# Altium schematic symbol library Schlib.SchLib: 97 symbols
Pins are listed as number, name and electrical type; pins without a type are passive.

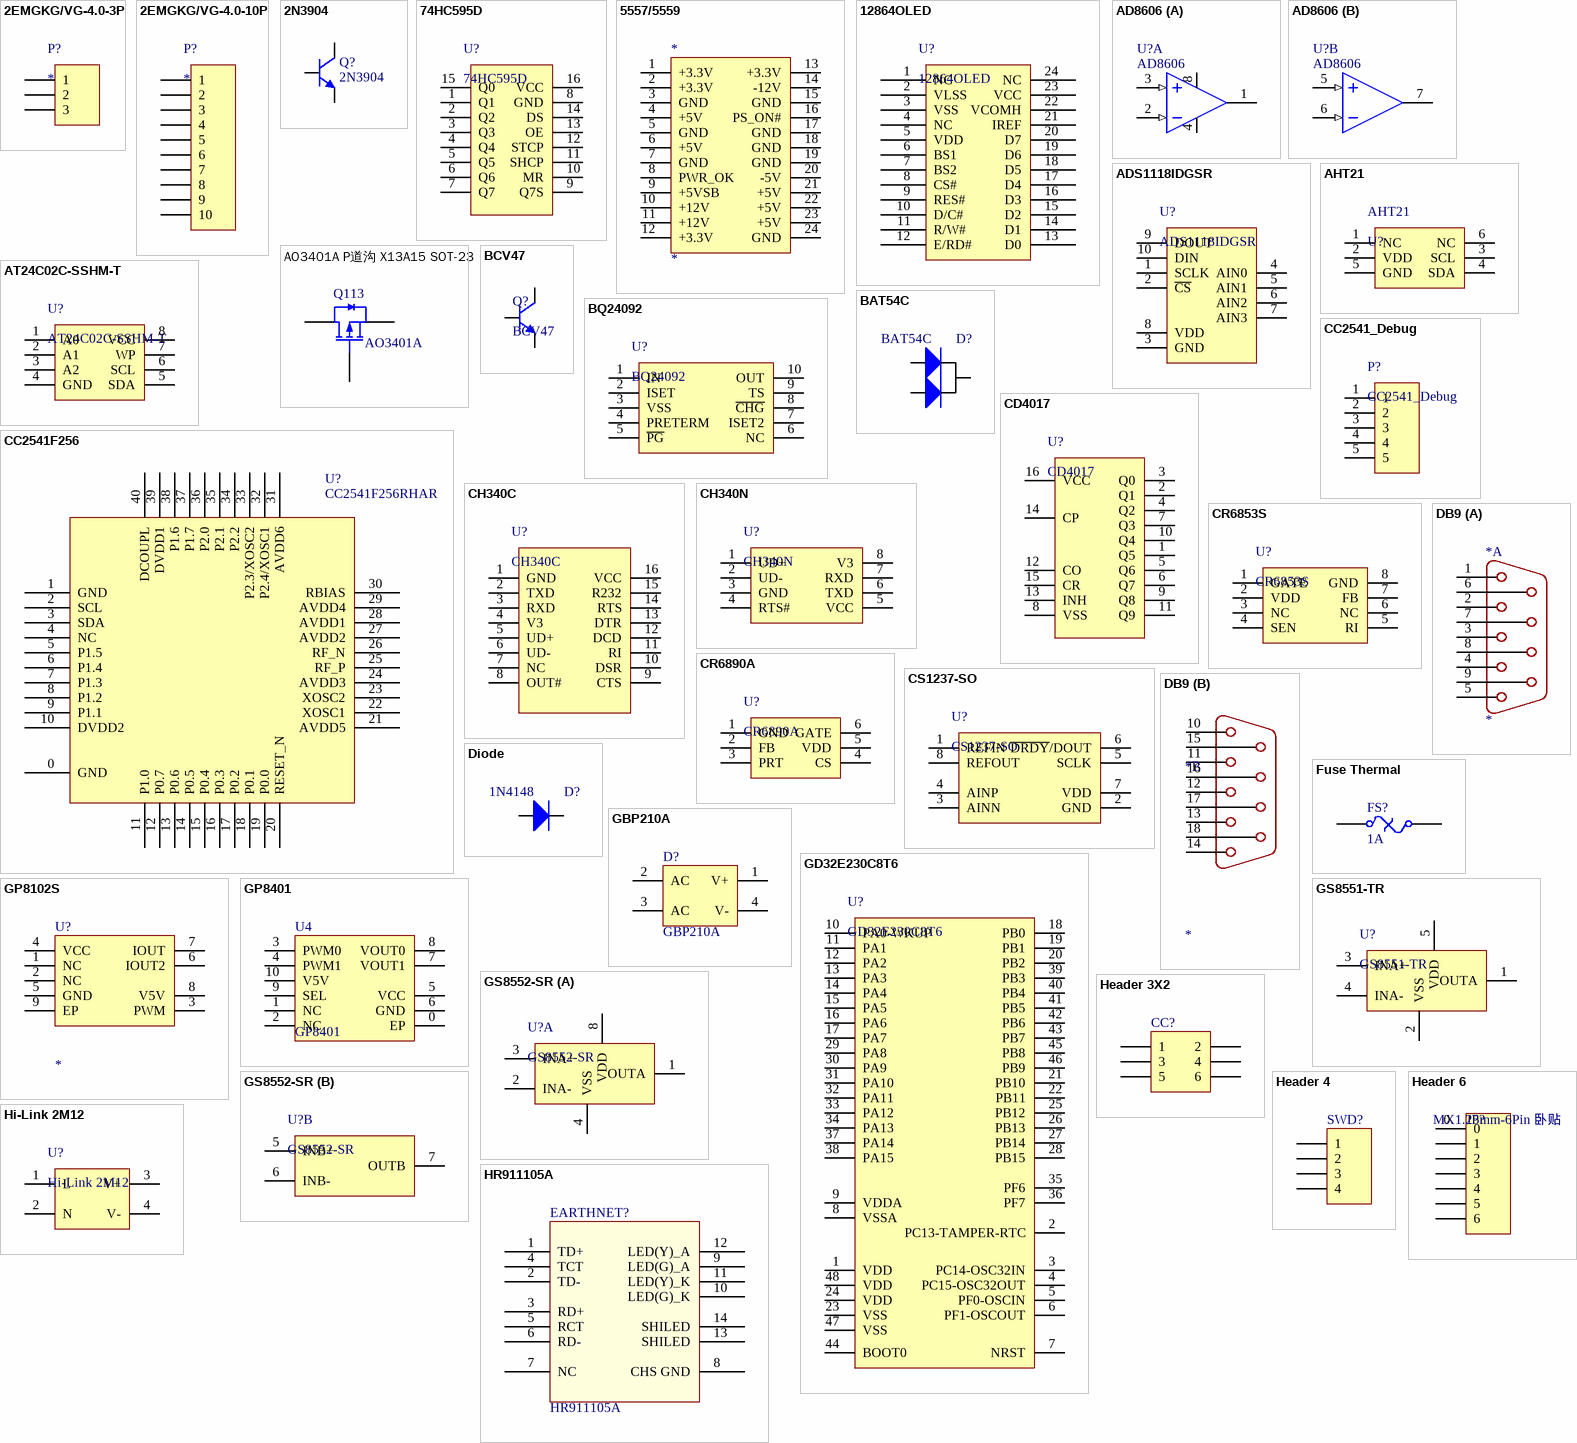
[diagram p0: symbols 2EMGKG/VG-4.0-3P to HR911105A]

## 2EMGKG/VG-4.0-3P
designator P?
西门子
footprint 2EMGKG/VG-4.0-3P
pins: 1, 2, 3

## 2EMGKG/VG-4.0-10P
designator P?
西门子
footprint 2EMGKG/VG-4.0-7P
pins: 1, 2, 3, 4, 5, 6, 7, 8, 9, 10

## 2N3904
designator Q?
NPN General Purpose Amplifier; Published: 8-Jun-2000; LatestRevisionDate: 15-Jan-2003; LatestRevisionNote: PCB Footprint 'BCY-W3/D4.7' replaced; DatasheetDocument: 1997; PackageDocument: Sep-1998; PackageReference: TO-92A; Publisher: Altium Limited; Code_JEDEC: TO-92A; ComponentLink1Description: Manufacturer Link; ComponentLink1URL: http://www.fairchildsemi.com/; ComponentLink2Description: Datasheet; ComponentLink2URL: http://www.fairchildsemi.com/ds/2N%2F2N3904.pdf
footprint TO-92A (TO, Flat Index; 3 In-Line, Axial Leads; Body Dia. 4.5mm; Leads 0.51 x 0.48 mm (max))
simulation model 2N3904 (NPN)
signal-integrity model 2N3904
footprint SOT-23
pins: 1 E, 2 B, 3 C

## 74HC595D
designator U?
74HC 移位寄存器 8位
footprint SOP-16
pins: 1 Q1, 2 Q2, 3 Q3, 4 Q4, 5 Q5, 6 Q6, 7 Q7, 8 GND, 9 Q7S, 10 MR, 11 SHCP, 12 STCP, 13 OE, 14 DS, 15 Q0, 16 VCC

## 5557/5559
designator *
footprint PC_4.2mm_2x12p
pins: 1 +3.3V, 2 +3.3V, 3 GND, 4 +5V, 5 GND, 6 +5V, 7 GND, 8 PWR_OK, 9 +5VSB, 10 +12V, 11 +12V, 12 +3.3V, 13 +3.3V, 14 -12V, 15 GND, 16 PS_ON#, 17 GND, 18 GND, 19 GND, 20 -5V, 21 +5V, 22 +5V, 23 +5V, 24 GND
2 alternate drawings of the same symbol

## 12864OLED
designator U?
中景园 OLED
pins: 1 NC, 2 VLSS, 3 VSS, 4 NC, 5 VDD, 6 BS1, 7 BS2, 8 CS#, 9 RES#, 10 D/C#, 11 R/W#, 12 E/RD#, 13 D0, 14 D1, 15 D2, 16 D3, 17 D4, 18 D5, 19 D6, 20 D7, 21 IREF, 22 VCOMH, 23 VCC, 24 NC

## AD8606
designator U?
CMOS Dual Operational Amplifier, Package SOIC8; Published: 8-Jun-2000; LatestRevisionDate: 04-Mar-2005; LatestRevisionNote: Stylized 3D Model Added.; DatasheetVersion: REV. C; PackageVersion: 1996; PackageReference: Q-16; Publisher: Altium Limited; PackageDescription: DIP; 16 Leads; Row Spacing 7.62 mm; Pitch 2.54 mm; ComponentLink1Description: Manufacturer Link; ComponentLink1URL: http://www.analog.com/en/prod/0%2C2877%2CAD96685%2C00.html; ComponentLink2Description: Datasheet; ComponentLink2URL: http://www.analog.com/UploadedFiles/Data_Sheets/528053103AD96685_7_d.pdf
footprint SOIC8
part A pins: 1 OUTA (oe), 2 INA- (in), 3 INA+ (in), 4 OUT3, 8 VCC (oe)
part B pins: 5 INB+ (in), 6 INB- (in), 7 OUTB (oe)

## ADS1118IDGSR
designator U?
位数：16  采样率：860  单端4 SPI
pins: 1 SCLK, 2 ~{CS}, 3 GND, 4 AIN0, 5 AIN1, 6 AIN2, 7 AIN3, 8 VDD, 9 DOUT, 10 DIN

## AHT21
designator AHT21, comment U?
footprint AHT21
pins: 1 NC, 2 VDD, 3 SCL, 4 SDA, 5 GND, 6 NC

## AO3401A P道沟 X13A15 SOT-23
designator Q113, comment AO3401A
MOS(场效应管); ComponentLink1Description: 供应商链接; ComponentLink1URL: http://www.szlcsc.com/product/details_15801.html; Package: SOT-23; Supplier: LC; SuppliersPartNumber: C15127
footprint SOT-23-3L (http://www.aosmd.com/res/packaging_information/SOT-23-3L.pdf)
pins: 1 G, 2 S, 3 D

## AT24C02C-SSHM-T
designator U?
footprint SOIC8
pins: 1 A0, 2 A1, 3 A2, 4 GND, 5 SDA, 6 SCL, 7 WP, 8 VCC

## BAT54C
designator D?
BAT54C  一对共阴极; Published: 8-Jun-2000; LatestRevisionDate: 17-Jul-2002; LatestRevisionNote: Re-released for DXP Platform.; PackageDocument: Sep-1996; PackageReference: SMC; Publisher: Altium Limited; Code_JEDEC: DO-214-AB
footprint SOT-23 2N3904 (SOT-23; 3 Leads; Body 3.0 x 2.6 mm, inc. leads (LxW max))
pins: 1, 2, 3

## BCV47
designator Q?
达林顿管 Vcbo 80V Vceo 60V Ic 500mA
pins: 1 E, 2 B, 3 C

## BQ24092
designator U?
德仪 1A 锂离子电池充电 10kΩ NTC
pins: 1 IN, 2 ISET, 3 VSS, 4 PRETERM, 5 ~{PG}, 6 NC, 7 ISET2, 8 ~{CHG}, 9 TS, 10 OUT

## CC2541_Debug
designator P?
2.00mm*5
footprint CC2541_DEBUG
pins: 1, 2, 3, 4, 5

## CC2541F256
designator U?, comment CC2541F256RHAR
CC2541F128/256  Package Type: VQFN, Package Drawing: RHA,
footprint QFN40-MD (QFN, 40-Leads, Body 6.2x6.2mm (max), Pitch 0.50mm, IPC Medium Density)
pins: 0 GND, 1 GND, 2 SCL, 3 SDA, 4 NC, 5 P1.5, 6 P1.4, 7 P1.3, 8 P1.2, 9 P1.1, 10 DVDD2, 11 P1.0, 12 P0.7, 13 P0.6, 14 P0.5, 15 P0.4, 16 P0.3, 17 P0.2, 18 P0.1, 19 P0.0, 20 RESET_N, 21 AVDD5, 22 XOSC1, 23 XOSC2, 24 AVDD3, 25 RF_P, 26 RF_N, 27 AVDD2, 28 AVDD1, 29 AVDD4, 30 RBIAS, 31 AVDD6, 32 P2.4/XOSC1, 33 P2.3/XOSC2, 34 P2.2, 35 P2.1, 36 P2.0, 37 P1.7, 38 P1.6, 39 DVDD1, 40 DCOUPL

## CD4017
designator U?
footprint SOP-16
pins: 1 Q5, 2 Q1, 3 Q0, 4 Q2, 5 Q6, 6 Q7, 7 Q3, 8 VSS, 9 Q8, 10 Q4, 11 Q9, 12 CO, 13 INH, 14 CP, 15 CR, 16 VCC

## CH340C
designator U?
footprint SOP-16
pins: 1 GND, 2 TXD, 3 RXD, 4 V3, 5 UD+, 6 UD-, 7 NC, 8 OUT#, 9 CTS, 10 DSR, 11 RI, 12 DCD, 13 DTR, 14 RTS, 15 R232, 16 VCC

## CH340N
designator U?
USB转串口芯片
footprint SOP-8_150MIL
pins: 1 UD+, 2 UD-, 3 GND, 4 RTS#, 5 VCC, 6 TXD, 7 RXD, 8 V3

## CR6853S
designator U?
footprint SOP8
pins: 1 GATE, 2 VDD, 3 NC, 4 SEN, 5 RI, 6 NC, 7 FB, 8 GND

## CR6890A
designator U?
footprint SOT-23 - 6
pins: 1 GND, 2 FB, 3 PRT, 4 CS, 5 VDD, 6 GATE

## CS1237-SO
designator U?
芯海科技 24位无失码 最高有效精度20位 2线通讯接口
pins: 1 REFIN, 2 GND, 3 AINN, 4 AINP, 5 SCLK, 6 ~{DRDY}/DOUT, 7 VDD, 8 REFOUT

## DB9
designator *
footprint D-Sub 9P female
footprint D-Sub 9P male
footprint D-Sub 9P*2 female
part A pins: 1, 2, 3, 4, 5, 6, 7, 8, 9
part B pins: 10, 11, 12, 13, 14, 15, 16, 17, 18
2 alternate drawings of the same symbol

## Diode
designator D?, comment 1N4148
Published: 8-Jun-2000; LatestRevisionDate: 17-Jul-2002; LatestRevisionNote: Re-released for DXP Platform.; PackageDocument: Sep-1996; PackageReference: SMC; Publisher: Altium Limited; Code_JEDEC: DO-214-AB
footprint SMC (DO-214-AB/SMC; 2 C-Bend Leads; Body 7.9 x 5.9 mm, inc. leads (LxW))
simulation model DIODE (Diode)
signal-integrity model Diode
footprint 0805D
pins: 1, 2 3

## Fuse Thermal
designator FS?, comment 1A
FS, 30V_500mA; Published: 24-Mar-1999; LatestRevisionDate: 17-Jul-2002; LatestRevisionNote: Re-released for DXP Platform.; PackageReference: PIN-W2/E2.8; Publisher: 1A
footprint PIN-W2/E2.8 (Thermal Fuse; 2 Leads)
footprint SMD1206
pins: 1, 2

## GBP210A
designator D?
Published: 24-Mar-1999; LatestRevisionDate: 17-Jul-2002; LatestRevisionNote: Re-released for DXP Platform.; PackageReference: D-46_6A; Publisher: Altium Limited
pins: 1 V+, 2 AC, 3 AC, 4 V-

## GD32E230C8T6
designator U?
ARM Cortex-M23
footprint LQFP48
pins: 1 VDD, 2 PC13-TAMPER-RTC, 3 PC14-OSC32IN, 4 PC15-OSC32OUT, 5 PF0-OSCIN, 6 PF1-OSCOUT, 7 NRST, 8 VSSA, 9 VDDA, 10 PA0-WKUP, 11 PA1, 12 PA2, 13 PA3, 14 PA4, 15 PA5, 16 PA6, 17 PA7, 18 PB0, 19 PB1, 20 PB2, 21 PB10, 22 PB11, 23 VSS, 24 VDD, 25 PB12, 26 PB13, 27 PB14, 28 PB15, 29 PA8, 30 PA9, 31 PA10, 32 PA11, 33 PA12, 34 PA13, 35 PF6, 36 PF7, 37 PA14, 38 PA15, 39 PB3, 40 PB4, 41 PB5, 42 PB6, 43 PB7, 44 BOOT0, 45 PB8, 46 PB9, 47 VSS, 48 VDD

## GP8102S
designator U?
0%-100% PWM 转0-20mA
footprint SOP-8-EP
pins: 1 NC, 2 NC, 3 PWM, 4 VCC, 5 GND, 6 IOUT2, 7 IOUT, 8 V5V, 9 EP
2 alternate drawings of the same symbol

## GP8401
designator U4
双通道 0%-100% PWM 转 0-5V/0-10V
footprint ESSOP-10(-EP)
pins: 0 EP, 1 NC, 2 NC, 3 PWM0, 4 PWM1, 5 VCC, 6 GND, 7 VOUT1, 8 VOUT0, 9 SEL, 10 V5V
2 alternate drawings of the same symbol

## GS8551-TR
designator U?
1.5MHZ, 轨到轨，5uVm
footprint SOT-23 - 5
pins: 1 OUTA, 2 VSS, 3 INA+, 4 INA-, 5 VDD

## GS8552-SR
designator U?
1.5MHZ, 轨到轨，5uVm
footprint SOP-8_150MIL
part A pins: 1 OUTA, 2 INA-, 3 INA+, 4 VSS, 8 VDD
part B pins: 5 INB+, 6 INB-, 7 OUTB

## Header 3X2
designator CC?  (value not drawn)
Header, 3-Pin, Dual row; LatestRevisionDate: 17-Jul-2002; LatestRevisionNote: Re-released for DXP Platform.; Publisher: Altium Limited
footprint HDR2X3 (Connector; Header; 3x2 Position)
signal-integrity model Connector
footprint PIN_D1.27_8A
footprint PIN_D1.27_6A
pins: 1, 2, 3, 4, 5, 6

## Header 4
designator SWD?  (value not drawn)
Header, 4-Pin; LatestRevisionDate: 17-Jul-2002; LatestRevisionNote: Re-released for DXP Platform.; Publisher: Altium Limited
footprint Sullins_1.27-4mm (Receptacle, 1.27mm, 6x1, SMT)
signal-integrity model Connector
pins: 1, 2, 3, 4

## Header 6
designator JP?, comment MX1.25mm-6Pin 卧贴
LatestRevisionDate: 17-Jul-2002; LatestRevisionNote: Re-released for DXP Platform.; Publisher: Altium Limited
footprint ROHS_1.25-6MM (Receptacle, 1.27mm, 6x1, SMT)
signal-integrity model Connector
pins: 0, 1, 2, 3, 4, 5, 6

## Hi-Link 2M12
designator U?
footprint Hi-Link 2M12
pins: 1 L, 2 N, 3 V+, 4 V-

## HR911105A
designator EARTHNET?
footprint HR911105A
pins: 1 TD+, 2 TD-, 3 RD+, 4 TCT, 5 RCT, 6 RD-, 7 NC, 8 CHS GND, 9 LED(G)_A, 10 LED(G)_K, 11 LED(Y)_K, 12 LED(Y)_A, 13 SHILED, 14 SHILED

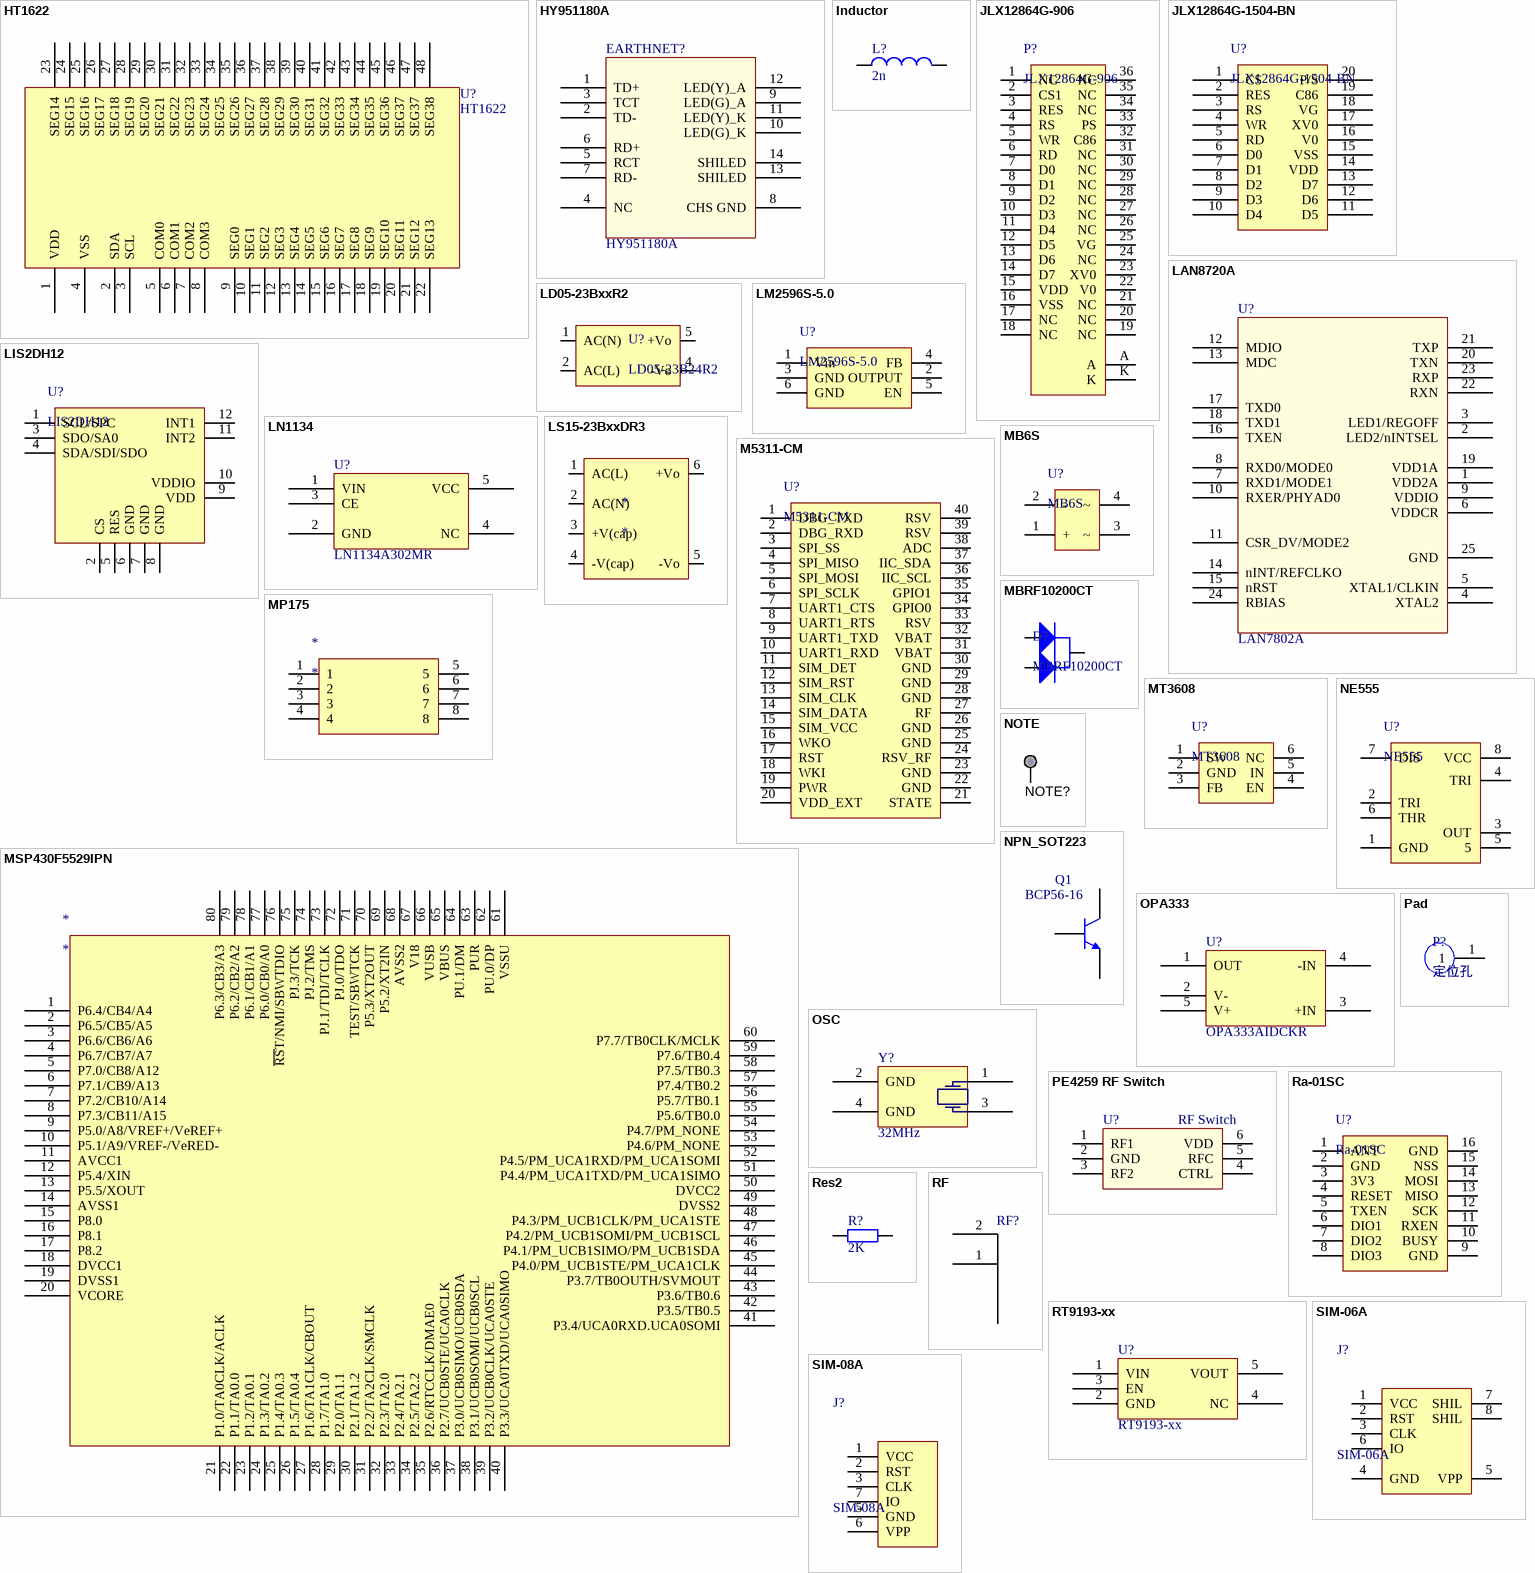
[diagram p1: symbols HT1622 to SIM-08A]

## HT1622
designator U?
RAM Mapping LCD Controller  4x38
footprint LQFP48
pins: 1 VDD, 2 SDA, 3 SCL, 4 VSS, 5 COM0, 6 COM1, 7 COM2, 8 COM3, 9 SEG0, 10 SEG1, 11 SEG2, 12 SEG3, 13 SEG4, 14 SEG5, 15 SEG6, 16 SEG7, 17 SEG8, 18 SEG9, 19 SEG10, 20 SEG11, 21 SEG12, 22 SEG13, 23 SEG14, 24 SEG15, 25 SEG16, 26 SEG17, 27 SEG18, 28 SEG19, 29 SEG20, 30 SEG21, 31 SEG22, 32 SEG23, 33 SEG24, 34 SEG25, 35 SEG26, 36 SEG27, 37 SEG28, 38 SEG29, 39 SEG30, 40 SEG31, 41 SEG32, 42 SEG33, 43 SEG34, 44 SEG35, 45 SEG36, 46 SEG37, 47 SEG37, 48 SEG38

## HY951180A
designator EARTHNET?
footprint HY951180A
pins: 1 TD+, 2 TD-, 3 TCT, 4 NC, 5 RCT, 6 RD+, 7 RD-, 8 CHS GND, 9 LED(G)_A, 10 LED(G)_K, 11 LED(Y)_K, 12 LED(Y)_A, 13 SHILED, 14 SHILED

## Inductor
designator L?, comment 2n
+/- 0.3nH; Code_IEC: 1005; Published: 8-Jun-2000; LatestRevisionDate: 17-Jul-2002; LatestRevisionNote: Re-released for DXP Platform.; PackageReference: 0402-A; Publisher: Altium Limited; Code_JEITA: 0402; Value: 2n
footprint 0402-A (Chip Inductor; Body 1 x 0.5 mm (LxW typ))
footprint L0603 (Chip Inductor; Body 1.6 x 0.8 mm (LxW typ))
footprint 2012_Chip (2012 Chip; Chip Inductor; Body 2.0 x 1.2 mm (LxW typ))
footprint 2029 (Chip Inductor; Body 2 x 1.2 mm (LxW typ))
footprint 3261 (3216 Chip; Chip Inductor; Body 3.2 x 1.6 mm (LxW typ))
footprint 4564_Chip (4564 Chip; Chip Inductor; Body 4.5 x 6.4 mm (LxW typ))
simulation model INDUCTOR (Inductor)
signal-integrity model Inductor
footprint 0603R
footprint 0402R
footprint 0402mR
pins: 1, 2

## JLX12864G-906
designator P?
晶联讯电子
pins: 1 NC, 2 CS1, 3 RES, 4 RS, 5 WR, 6 RD, 7 D0, 8 D1, 9 D2, 10 D3, 11 D4, 12 D5, 13 D6, 14 D7, 15 VDD, 16 VSS, 17 NC, 18 NC, 19 NC, 20 NC, 21 NC, 22 V0, 23 XV0, 24 NC, 25 VG, 26 NC, 27 NC, 28 NC, 29 NC, 30 NC, 31 NC, 32 C86, 33 PS, 34 NC, 35 NC, 36 NC, A, K

## JLX12864G-1504-BN
designator U?
晶联讯电子
pins: 1 CS, 2 RES, 3 RS, 4 WR, 5 RD, 6 D0, 7 D1, 8 D2, 9 D3, 10 D4, 11 D5, 12 D6, 13 D7, 14 VDD, 15 VSS, 16 V0, 17 XV0, 18 VG, 19 C86, 20 P/S

## LAN8720A
designator U?, comment LAN7802A
Small Footprint RMII 10/100 Ethernet
footprint QFN24
pins: 1 VDD2A, 2 LED2/nINTSEL, 3 LED1/REGOFF, 4 XTAL2, 5 XTAL1/CLKIN, 6 VDDCR, 7 RXD1/MODE1, 8 RXD0/MODE0, 9 VDDIO, 10 RXER/PHYAD0, 11 CSR_DV/MODE2, 12 MDIO, 13 MDC, 14 nINT/REFCLKO, 15 nRST, 16 TXEN, 17 TXD0, 18 TXD1, 19 VDD1A, 20 TXN, 21 TXP, 22 RXN, 23 RXP, 24 RBIAS, 25 GND

## LD05-23BxxR2
designator U?, comment LD05-23B24R2
footprint LD05-23BxxR2
pins: 1 AC(N), 2 AC(L), 4 -Vo, 5 +Vo

## LIS2DH12
designator U?
加速度传感器
pins: 1 SCL/SPC, 2 CS, 3 SDO/SA0, 4 SDA/SDI/SDO, 5 RES, 6 GND, 7 GND, 8 GND, 9 VDD, 10 VDDIO, 11 INT2, 12 INT1

## LM2596S-5.0
designator U?
footprint TO-263-5
pins: 1 Vin, 2 OUTPUT, 3 GND, 4 FB, 5 EN, 6 GND

## LN1134
designator U?, comment LN1134A302MR
SC-88, SOT363,Dual inverting schmitt-trigger
footprint SOT-23 - 5
pins: 1 VIN, 2 GND, 3 CE, 4 NC, 5 VCC

## LS15-23BxxDR3
designator *
footprint LS15-23BXXR3
pins: 1 AC(L), 2 AC(N), 3 +V(cap), 4 -V(cap), 5 -Vo, 6 +Vo

## M5311-CM
designator U?
中移NB-IoT
pins: 1 DBG_TXD, 2 DBG_RXD, 3 SPI_SS, 4 SPI_MISO, 5 SPI_MOSI, 6 SPI_SCLK, 7 UART1_CTS, 8 UART1_RTS, 9 UART1_TXD, 10 UART1_RXD, 11 SIM_DET, 12 SIM_RST, 13 SIM_CLK, 14 SIM_DATA, 15 SIM_VCC, 16 WKO, 17 RST, 18 WKI, 19 PWR, 20 VDD_EXT, 21 STATE, 22 GND, 23 GND, 24 RSV_RF, 25 GND, 26 GND, 27 RF, 28 GND, 29 GND, 30 GND, 31 VBAT, 32 VBAT, 33 RSV, 34 GPIO0, 35 GPIO1, 36 IIC_SCL, 37 IIC_SDA, 38 ADC, 39 RSV, 40 RSV

## MB6S
designator U?
footprint MB6S (Footprint not found)
pins: 1 +, 2 -, 3 ~, 4 ~

## MBRF10200CT
designator D?
pins: 1, 2, 3

## MP175
designator *
pins: 1, 2, 3, 4, 5, 6, 7, 8

## MSP430F5529IPN
designator *
pins: 1 P6.4/CB4/A4, 2 P6.5/CB5/A5, 3 P6.6/CB6/A6, 4 P6.7/CB7/A7, 5 P7.0/CB8/A12, 6 P7.1/CB9/A13, 7 P7.2/CB10/A14, 8 P7.3/CB11/A15, 9 P5.0/A8/VREF+/VeREF+, 10 P5.1/A9/VREF-/VeRED-, 11 AVCC1, 12 P5.4/XIN, 13 P5.5/XOUT, 14 AVSS1, 15 P8.0, 16 P8.1, 17 P8.2, 18 DVCC1, 19 DVSS1, 20 VCORE, 21 P1.0/TA0CLK/ACLK, 22 P1.1/TA0.0, 23 P1.2/TA0.1, 24 P1.3/TA0.2, 25 P1.4/TA0.3, 26 P1.5/TA0.4, 27 P1.6/TA1CLK/CBOUT, 28 P1.7/TA1.0, 29 P2.0/TA1.1, 30 P2.1/TA1.2, 31 P2.2/TA2CLK/SMCLK, 32 P2.3/TA2.0, 33 P2.4/TA2.1, 34 P2.5/TA2.2, 35 P2.6/RTCCLK/DMAE0, 36 P2.7/UCB0STE/UCA0CLK, 37 P3.0/UCB0SIMO/UCB0SDA, 38 P3.1/UCB0SOMI/UCB0SCL, 39 P3.2/UCB0CLK/UCA0STE, 40 P3.3/UCA0TXD/UCA0SIMO, 41 P3.4/UCA0RXD.UCA0SOMI, 42 P3.5/TB0.5, 43 P3.6/TB0.6, 44 P3.7/TB0OUTH/SVMOUT, 45 P4.0/PM_UCB1STE/PM_UCA1CLK, 46 P4.1/PM_UCB1SIMO/PM_UCB1SDA, 47 P4.2/PM_UCB1SOMI/PM_UCB1SCL, 48 P4.3/PM_UCB1CLK/PM_UCA1STE, 49 DVSS2, 50 DVCC2, 51 P4.4/PM_UCA1TXD/PM_UCA1SIMO, 52 P4.5/PM_UCA1RXD/PM_UCA1SOMI, 53 P4.6/PM_NONE, 54 P4.7/PM_NONE, 55 P5.6/TB0.0, 56 P5.7/TB0.1, 57 P7.4/TB0.2, 58 P7.5/TB0.3, 59 P7.6/TB0.4, 60 P7.7/TB0CLK/MCLK, 61 VSSU, 62 PU.0/DP, 63 PUR, 64 PU.1/DM, 65 VBUS, 66 VUSB, 67 V18, 68 AVSS2, 69 P5.2/XT2IN, 70 P5.3/XT2OUT, 71 TEST/SBWTCK, 72 PJ.0/TDO, 73 PJ.1/TDI/TCLK, 74 PJ.2/TMS, 75 PJ.3/TCK, 76 ~{RS}T/NMI/SBWTDIO, 77 P6.0/CB0/A0, 78 P6.1/CB1/A1, 79 P6.2/CB2/A2, 80 P6.3/CB3/A3

## MT3608
designator U?
西安航天民芯
pins: 1 SW, 2 GND, 3 FB, 4 EN, 5 IN, 6 NC

## NE555
designator U?
footprint SOIC8
pins: 1 GND, 2 TRI, 3 OUT, 4 TRI, 5, 6 THR, 7 DIS, 8 VCC

## NOTE
designator NOTE?, comment TESTPOINT  (value not drawn)  (no BOM)
Test Point, Miniature, SMT; PartNumber: 5019; Manufacturer: Keystone; CompType: Test Point Loop; U/M: EA; SymbolVersion: 2010-10-20; PackageReference: Test Point, Miniature, SMT; RoHS: Y; MountType: SMT; ComponentLink1Description: Datasheet Link; ComponentLink1URL: http://www.keyelco.com/product-pdf.cfm?p=1357; Publisher: Texas Instruments; LatestRevisionDate: 2014-11-14; Supplier 1: Digi-Key; Supplier Part Number 1: 5019KCT-ND; Supplier 2: Mouser; Supplier Part Number 2: 534-5019
footprint Keystone_5019
footprint Keystone_5019 (Test Point, Miniature, SMT)
footprint BMP-NOTE2
pins: 1

## NPN_SOT223
designator Q1, comment BCP56-16
BCP56-16 SOT223
footprint NPN_SOT223
footprint SOT-223
pins: 1, 2, 3

## OPA333
designator U?, comment OPA333AIDCKR
CMOS Operational Amplifiers
footprint SC70
pins: 1 OUT, 2 V-, 3 +IN, 4 -IN, 5 V+

## OSC
designator Y?, comment 32MHz
footprint X3225
footprint XTAL-3225
footprint X3225
pins: 1 OUT, 2 GND, 3 IN, 4 GND

## Pad
designator P?, comment 定位孔
pins: 1

## PE4259 RF Switch
designator U?, comment RF Switch
PE4259 Peregrine RF Switch; LatestRevisionDate: 03-Sep-2012 -  Semtech
footprint SC70-6L
pins: 1 RF1, 2 GND, 3 RF2, 4 CTRL, 5 RFC, 6 VDD

## Ra-01SC
designator U?
安信可LoRa模块
pins: 1 ANT, 2 GND, 3 3V3, 4 RESET, 5 TXEN, 6 DIO1, 7 DIO2, 8 DIO3, 9 GND, 10 BUSY, 11 RXEN, 12 SCK, 13 MISO, 14 MOSI, 15 NSS, 16 GND

## Res2
designator R?, comment 2K
Resistor, 1%, 0.1 W; Published: *; LatestRevisionDate: *; LatestRevisionNote: *; PackageReference: *; Publisher: *; Value: *
footprint AXIAL-0.4
footprint 0603
footprint 0805R
footprint 0603R
pins: 1, 2
2 alternate drawings of the same symbol

## RF
designator RF?  (value not drawn)
footprint ANT-F
footprint AN
pins: 1, 2

## RT9193-xx
designator U?
500mA, Low Dropout CMOS LDO Regulator
footprint SOT-23 - 5
pins: 1 VIN, 2 GND, 3 EN, 4 NC, 5 VOUT

## SIM-06A
designator J?
韩国韩荣
footprint SIM-06A
pins: 1 VCC, 2 RST, 3 CLK, 4 GND, 5 VPP, 6 IO, 7 SHIL, 8 SHIL

## SIM-08A
designator J?
韩国韩荣
footprint SIM-08A
pins: 1 VCC, 2 RST, 3 CLK, 5 GND, 6 VPP, 7 IO

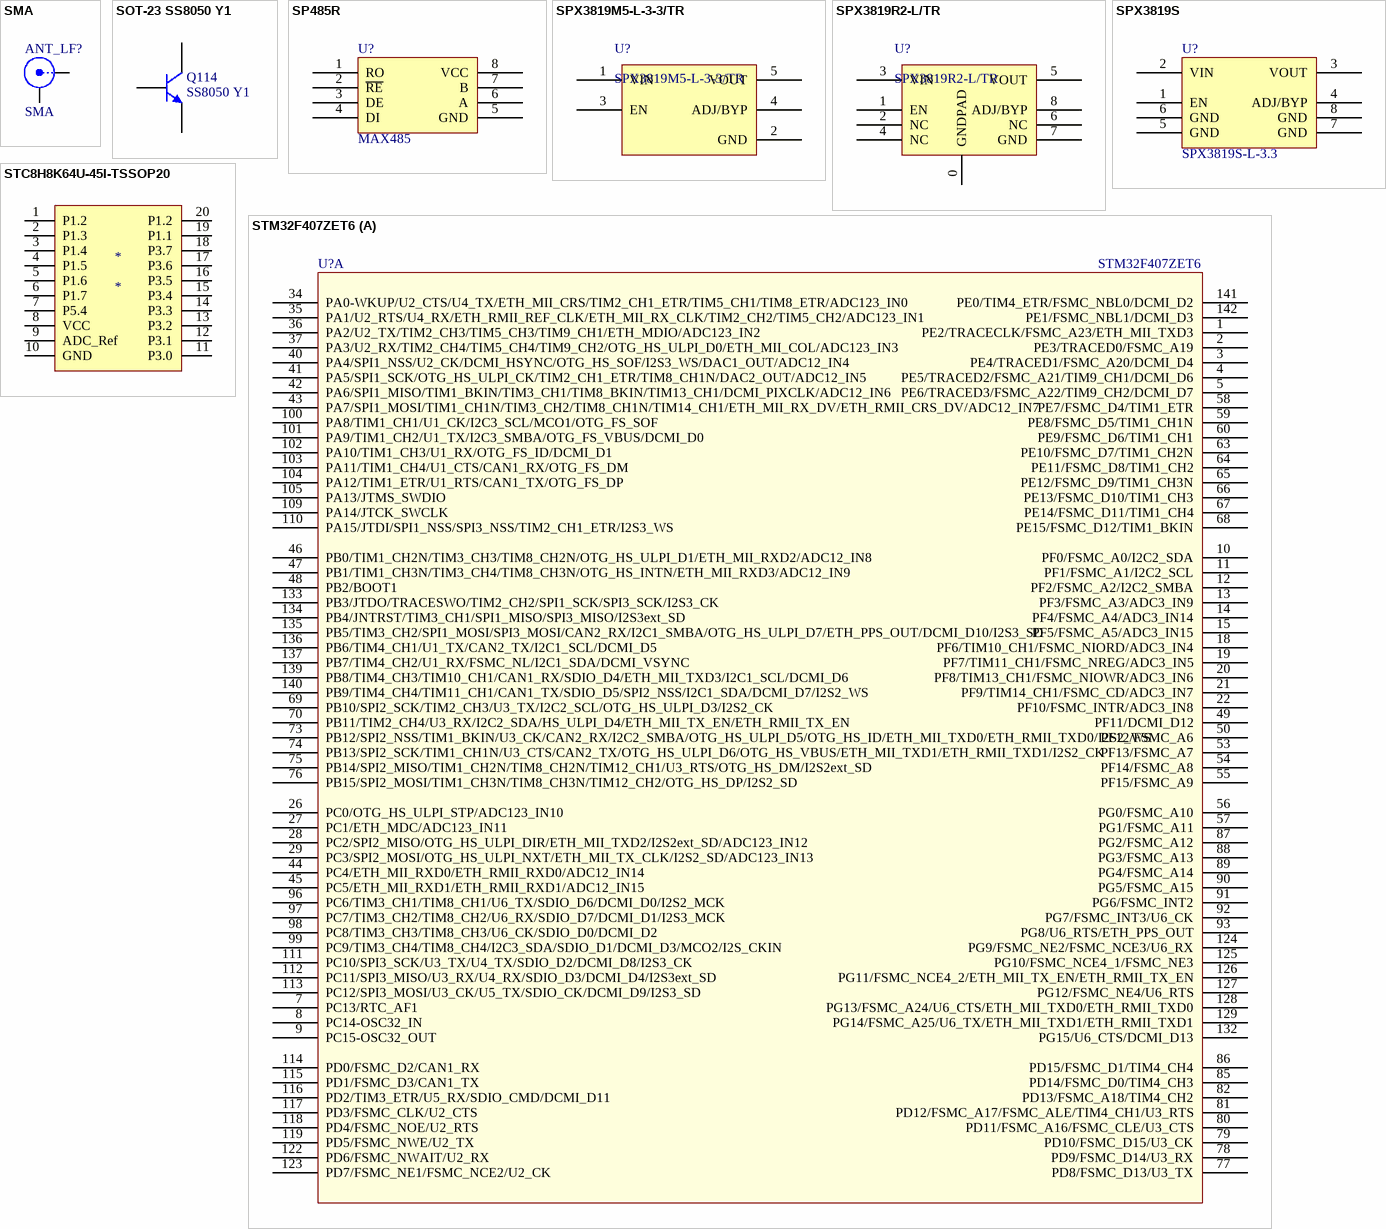
[diagram p2: symbols SMA to STM32F407ZET6]

## SMA
designator ANT_LF?
SMA Straight Connector; LatestRevisionDate: 05-oct-2007  -  Semtech; LatestRevisionNote: Re-released for DXP Platform.; Publisher: Altium Limited
footprint SMA Straight SMD (SMA Connector; Straight; SMD)
footprint SMA END LAUNCH JACK RECEPTACLE (SMA Connector - End Launch Jack Receptacle)
footprint JP
footprint SMA END LAUNCH JACK RECEPTACLE SHORT (SMA Connector - End Launch Jack Receptacle - Short)
pins: 1 Signal "RF signal", 2 GND "Ground signal"

## SOT-23 SS8050 Y1
designator Q114, comment SS8050 Y1
三极管; ComponentLink1Description: 供应商链接; ComponentLink1URL: http://www.szlcsc.com/product/details_2507.html; Package: SOT-23; Supplier: LC; SuppliersPartNumber: C2150
footprint SOT-23(SOT-23-3)
pins: 1 B, 2 E, 3 C

## SP485R
designator U?, comment MAX485
3.3V, 10Mbps, RS-485/RS-422  SOIC8 package
footprint SOIC8
pins: 1 RO, 2 ~{RE}, 3 DE, 4 DI, 5 GND, 6 A, 7 B, 8 VCC

## SPX3819M5-L-3-3/TR
designator U?
500mA,  Low Dropout Voltage Regulator
footprint SOT-23 - 5
pins: 1 VIN, 2 GND, 3 EN, 4 ADJ/BYP, 5 VOUT

## SPX3819R2-L/TR
designator U?
500mA,  Low Dropout Voltage Regulator
pins: 0 GNDPAD, 1 EN, 2 NC, 3 VIN, 4 NC, 5 VOUT, 6 NC, 7 GND, 8 ADJ/BYP

## SPX3819S
designator U?, comment SPX3819S-L-3.3
500mA,  Low Dropout Voltage Regulator
footprint SOIC8
pins: 1 EN, 2 VIN, 3 VOUT, 4 ADJ/BYP, 5 GND, 6 GND, 7 GND, 8 GND

## STC8H8K64U-45I-TSSOP20
designator *
pins: 1 P1.2, 2 P1.3, 3 P1.4, 4 P1.5, 5 P1.6, 6 P1.7, 7 P5.4, 8 VCC, 9 ADC_Ref, 10 GND, 11 P3.0, 12 P3.1, 13 P3.2, 14 P3.3, 15 P3.4, 16 P3.5, 17 P3.6, 18 P3.7, 19 P1.1, 20 P1.2

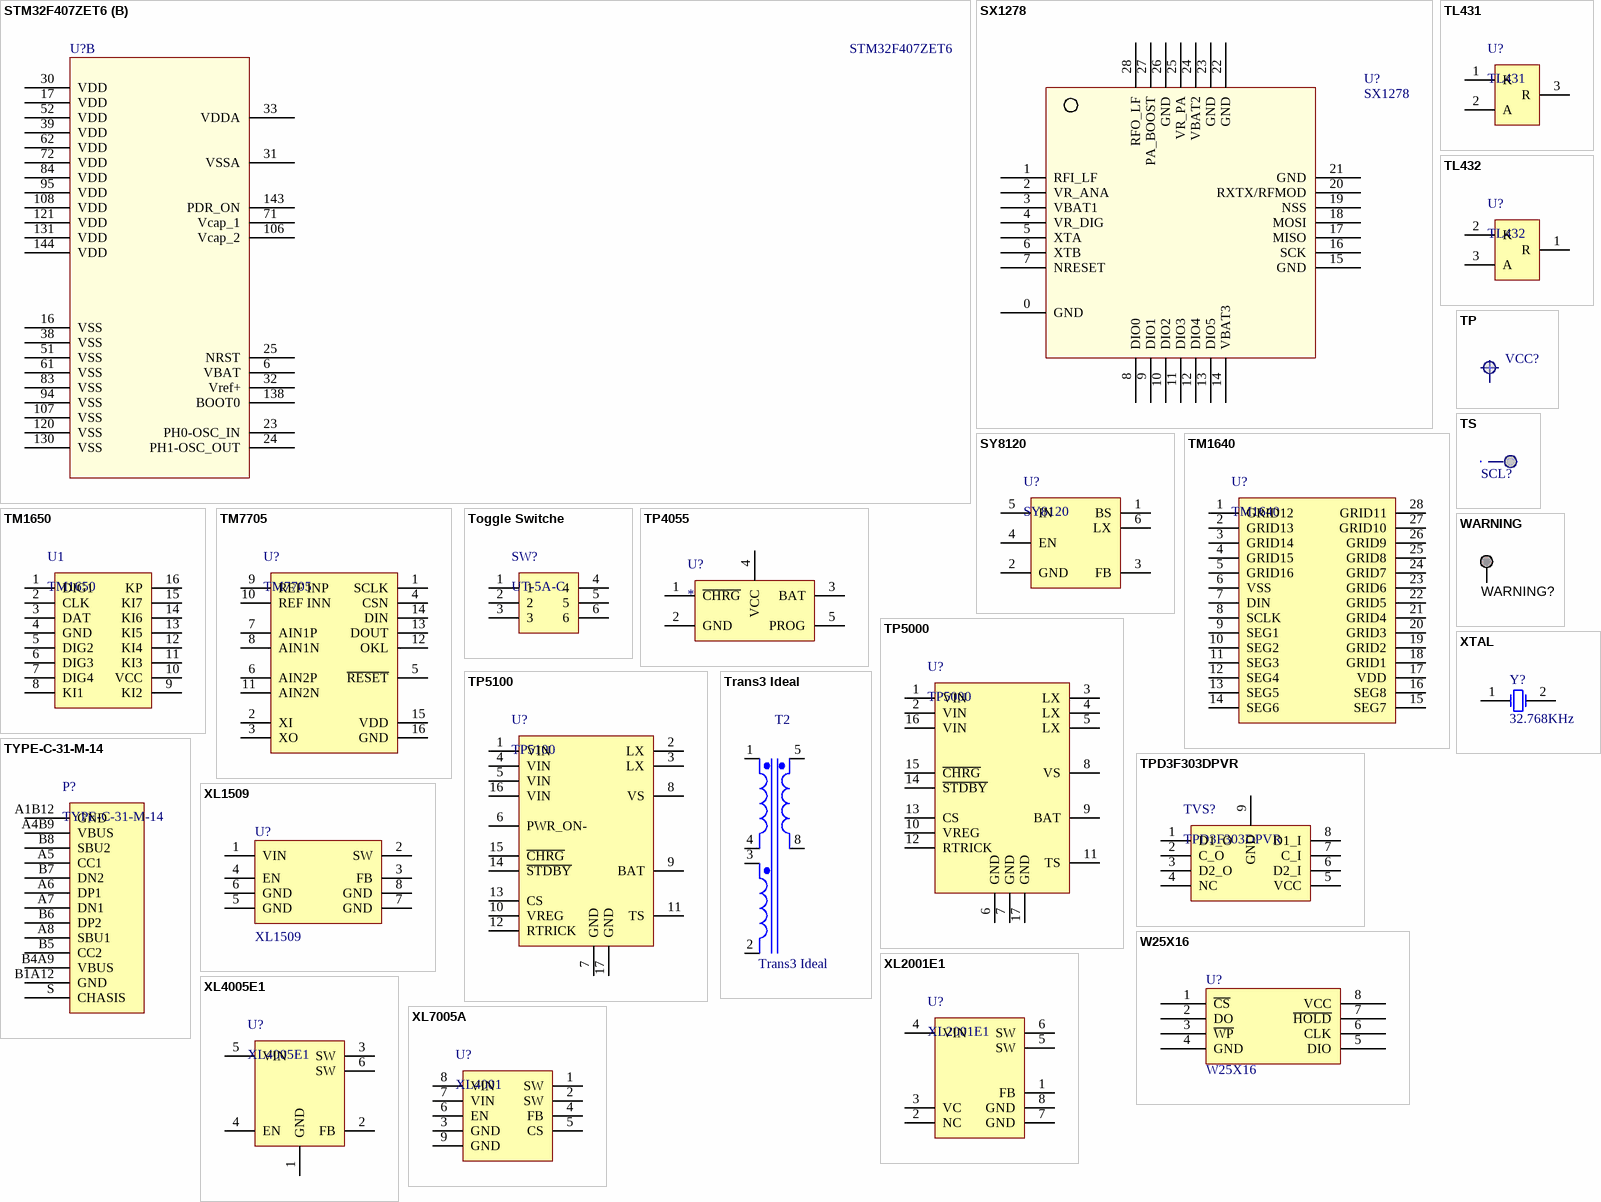
[diagram p3: symbols STM32F407ZET6 to XTAL]

## STM32F407ZET6
designator U?
footprint LQFP144
footprint LQFP144
part A pins: 1 PE2/TRACECLK/FSMC_A23/ETH_MII_TXD3, 2 PE3/TRACED0/FSMC_A19, 3 PE4/TRACED1/FSMC_A20/DCMI_D4, 4 PE5/TRACED2/FSMC_A21/TIM9_CH1/DCMI_D6, 5 PE6/TRACED3/FSMC_A22/TIM9_CH2/DCMI_D7, 7 PC13/RTC_AF1, 8 PC14-OSC32_IN, 9 PC15-OSC32_OUT, 10 PF0/FSMC_A0/I2C2_SDA, 11 PF1/FSMC_A1/I2C2_SCL, 12 PF2/FSMC_A2/I2C2_SMBA, 13 PF3/FSMC_A3/ADC3_IN9, 14 PF4/FSMC_A4/ADC3_IN14, 15 PF5/FSMC_A5/ADC3_IN15, 18 PF6/TIM10_CH1/FSMC_NIORD/ADC3_IN4, 19 PF7/TIM11_CH1/FSMC_NREG/ADC3_IN5, 20 PF8/TIM13_CH1/FSMC_NIOWR/ADC3_IN6, 21 PF9/TIM14_CH1/FSMC_CD/ADC3_IN7, 22 PF10/FSMC_INTR/ADC3_IN8, 26 PC0/OTG_HS_ULPI_STP/ADC123_IN10, 27 PC1/ETH_MDC/ADC123_IN11, 28 PC2/SPI2_MISO/OTG_HS_ULPI_DIR/ETH_MII_TXD2/I2S2ext_SD/ADC123_IN12, 29 PC3/SPI2_MOSI/OTG_HS_ULPI_NXT/ETH_MII_TX_CLK/I2S2_SD/ADC123_IN13, 34 PA0-WKUP/U2_CTS/U4_TX/ETH_MII_CRS/TIM2_CH1_ETR/TIM5_CH1/TIM8_ETR/ADC123_IN0, 35 PA1/U2_RTS/U4_RX/ETH_RMII_REF_CLK/ETH_MII_RX_CLK/TIM2_CH2/TIM5_CH2/ADC123_IN1, 36 PA2/U2_TX/TIM2_CH3/TIM5_CH3/TIM9_CH1/ETH_MDIO/ADC123_IN2, 37 PA3/U2_RX/TIM2_CH4/TIM5_CH4/TIM9_CH2/OTG_HS_ULPI_D0/ETH_MII_COL/ADC123_IN3, 40 PA4/SPI1_NSS/U2_CK/DCMI_HSYNC/OTG_HS_SOF/I2S3_WS/DAC1_OUT/ADC12_IN4, 41 PA5/SPI1_SCK/OTG_HS_ULPI_CK/TIM2_CH1_ETR/TIM8_CH1N/DAC2_OUT/ADC12_IN5, 42 PA6/SPI1_MISO/TIM1_BKIN/TIM3_CH1/TIM8_BKIN/TIM13_CH1/DCMI_PIXCLK/ADC12_IN6, 43 PA7/SPI1_MOSI/TIM1_CH1N/TIM3_CH2/TIM8_CH1N/TIM14_CH1/ETH_MII_RX_DV/ETH_RMII_CRS_DV/ADC12_IN7, 44 PC4/ETH_MII_RXD0/ETH_RMII_RXD0/ADC12_IN14, 45 PC5/ETH_MII_RXD1/ETH_RMII_RXD1/ADC12_IN15, 46 PB0/TIM1_CH2N/TIM3_CH3/TIM8_CH2N/OTG_HS_ULPI_D1/ETH_MII_RXD2/ADC12_IN8, 47 PB1/TIM1_CH3N/TIM3_CH4/TIM8_CH3N/OTG_HS_INTN/ETH_MII_RXD3/ADC12_IN9, 48 PB2/BOOT1, 49 PF11/DCMI_D12, 50 PF12/FSMC_A6, 53 PF13/FSMC_A7, 54 PF14/FSMC_A8, 55 PF15/FSMC_A9, 56 PG0/FSMC_A10, 57 PG1/FSMC_A11, 58 PE7/FSMC_D4/TIM1_ETR, 59 PE8/FSMC_D5/TIM1_CH1N, 60 PE9/FSMC_D6/TIM1_CH1, 63 PE10/FSMC_D7/TIM1_CH2N, 64 PE11/FSMC_D8/TIM1_CH2, 65 PE12/FSMC_D9/TIM1_CH3N, 66 PE13/FSMC_D10/TIM1_CH3, 67 PE14/FSMC_D11/TIM1_CH4, 68 PE15/FSMC_D12/TIM1_BKIN, 69 PB10/SPI2_SCK/TIM2_CH3/U3_TX/I2C2_SCL/OTG_HS_ULPI_D3/I2S2_CK, 70 PB11/TIM2_CH4/U3_RX/I2C2_SDA/HS_ULPI_D4/ETH_MII_TX_EN/ETH_RMII_TX_EN, 73 PB12/SPI2_NSS/TIM1_BKIN/U3_CK/CAN2_RX/I2C2_SMBA/OTG_HS_ULPI_D5/OTG_HS_ID/ETH_MII_TXD0/ETH_RMII_TXD0/I2S2_WS, 74 PB13/SPI2_SCK/TIM1_CH1N/U3_CTS/CAN2_TX/OTG_HS_ULPI_D6/OTG_HS_VBUS/ETH_MII_TXD1/ETH_RMII_TXD1/I2S2_CK, 75 PB14/SPI2_MISO/TIM1_CH2N/TIM8_CH2N/TIM12_CH1/U3_RTS/OTG_HS_DM/I2S2ext_SD, 76 PB15/SPI2_MOSI/TIM1_CH3N/TIM8_CH3N/TIM12_CH2/OTG_HS_DP/I2S2_SD, 77 PD8/FSMC_D13/U3_TX, 78 PD9/FSMC_D14/U3_RX, 79 PD10/FSMC_D15/U3_CK, 80 PD11/FSMC_A16/FSMC_CLE/U3_CTS, 81 PD12/FSMC_A17/FSMC_ALE/TIM4_CH1/U3_RTS, 82 PD13/FSMC_A18/TIM4_CH2, 85 PD14/FSMC_D0/TIM4_CH3, 86 PD15/FSMC_D1/TIM4_CH4, 87 PG2/FSMC_A12, 88 PG3/FSMC_A13, 89 PG4/FSMC_A14, 90 PG5/FSMC_A15, 91 PG6/FSMC_INT2, 92 PG7/FSMC_INT3/U6_CK, 93 PG8/U6_RTS/ETH_PPS_OUT, 96 PC6/TIM3_CH1/TIM8_CH1/U6_TX/SDIO_D6/DCMI_D0/I2S2_MCK, 97 PC7/TIM3_CH2/TIM8_CH2/U6_RX/SDIO_D7/DCMI_D1/I2S3_MCK, 98 PC8/TIM3_CH3/TIM8_CH3/U6_CK/SDIO_D0/DCMI_D2, 99 PC9/TIM3_CH4/TIM8_CH4/I2C3_SDA/SDIO_D1/DCMI_D3/MCO2/I2S_CKIN, 100 PA8/TIM1_CH1/U1_CK/I2C3_SCL/MCO1/OTG_FS_SOF, 101 PA9/TIM1_CH2/U1_TX/I2C3_SMBA/OTG_FS_VBUS/DCMI_D0, 102 PA10/TIM1_CH3/U1_RX/OTG_FS_ID/DCMI_D1, 103 PA11/TIM1_CH4/U1_CTS/CAN1_RX/OTG_FS_DM, 104 PA12/TIM1_ETR/U1_RTS/CAN1_TX/OTG_FS_DP, 105 PA13/JTMS_SWDIO, 109 PA14/JTCK_SWCLK, 110 PA15/JTDI/SPI1_NSS/SPI3_NSS/TIM2_CH1_ETR/I2S3_WS, 111 PC10/SPI3_SCK/U3_TX/U4_TX/SDIO_D2/DCMI_D8/I2S3_CK, 112 PC11/SPI3_MISO/U3_RX/U4_RX/SDIO_D3/DCMI_D4/I2S3ext_SD, 113 PC12/SPI3_MOSI/U3_CK/U5_TX/SDIO_CK/DCMI_D9/I2S3_SD, 114 PD0/FSMC_D2/CAN1_RX, 115 PD1/FSMC_D3/CAN1_TX, 116 PD2/TIM3_ETR/U5_RX/SDIO_CMD/DCMI_D11, 117 PD3/FSMC_CLK/U2_CTS, 118 PD4/FSMC_NOE/U2_RTS, 119 PD5/FSMC_NWE/U2_TX, 122 PD6/FSMC_NWAIT/U2_RX, 123 PD7/FSMC_NE1/FSMC_NCE2/U2_CK, 124 PG9/FSMC_NE2/FSMC_NCE3/U6_RX, 125 PG10/FSMC_NCE4_1/FSMC_NE3, 126 PG11/FSMC_NCE4_2/ETH_MII_TX_EN/ETH_RMII_TX_EN, 127 PG12/FSMC_NE4/U6_RTS, 128 PG13/FSMC_A24/U6_CTS/ETH_MII_TXD0/ETH_RMII_TXD0, 129 PG14/FSMC_A25/U6_TX/ETH_MII_TXD1/ETH_RMII_TXD1, 132 PG15/U6_CTS/DCMI_D13, 133 PB3/JTDO/TRACESWO/TIM2_CH2/SPI1_SCK/SPI3_SCK/I2S3_CK, 134 PB4/JNTRST/TIM3_CH1/SPI1_MISO/SPI3_MISO/I2S3ext_SD, 135 PB5/TIM3_CH2/SPI1_MOSI/SPI3_MOSI/CAN2_RX/I2C1_SMBA/OTG_HS_ULPI_D7/ETH_PPS_OUT/DCMI_D10/I2S3_SD, 136 PB6/TIM4_CH1/U1_TX/CAN2_TX/I2C1_SCL/DCMI_D5, 137 PB7/TIM4_CH2/U1_RX/FSMC_NL/I2C1_SDA/DCMI_VSYNC, 139 PB8/TIM4_CH3/TIM10_CH1/CAN1_RX/SDIO_D4/ETH_MII_TXD3/I2C1_SCL/DCMI_D6, 140 PB9/TIM4_CH4/TIM11_CH1/CAN1_TX/SDIO_D5/SPI2_NSS/I2C1_SDA/DCMI_D7/I2S2_WS, 141 PE0/TIM4_ETR/FSMC_NBL0/DCMI_D2, 142 PE1/FSMC_NBL1/DCMI_D3
part B pins: 6 VBAT, 16 VSS, 17 VDD, 23 PH0-OSC_IN, 24 PH1-OSC_OUT, 25 NRST, 30 VDD, 31 VSSA, 32 Vref+, 33 VDDA, 38 VSS, 39 VDD, 51 VSS, 52 VDD, 61 VSS, 62 VDD, 71 Vcap_1, 72 VDD, 83 VSS, 84 VDD, 94 VSS, 95 VDD, 106 Vcap_2, 107 VSS, 108 VDD, 120 VSS, 121 VDD, 130 VSS, 131 VDD, 138 BOOT0, 143 PDR_ON, 144 VDD

## SX1278
designator U?
SX1276 - Low Power Integrated UHF Transceiver with loRa Modem; LatestRevisionDate: 27-Jul-2009 -  Semtech
footprint VQFN8_6x6mm (28 Leads, Body 6.0x6.0mm, Pitch 0.65mm, VQFN28)
pins: 0 GND, 1 RFI_LF, 2 VR_ANA, 3 VBAT1, 4 VR_DIG, 5 XTA, 6 XTB, 7 NRESET, 8 DIO0, 9 DIO1, 10 DIO2, 11 DIO3, 12 DIO4, 13 DIO5, 14 VBAT3, 15 GND, 16 SCK, 17 MISO, 18 MOSI, 19 NSS, 20 RXTX/RFMOD, 21 GND, 22 GND, 23 GND, 24 VBAT2, 25 VR_PA, 26 GND, 27 PA_BOOST, 28 RFO_LF

## SY8120
designator U?
footprint SOT-23 - 6
pins: 1 BS, 2 GND, 3 FB, 4 EN, 5 IN, 6 LX

## TL431
designator U?
pins: 1 K, 2 A, 3 R

## TL432
designator U?
pins: 1 R, 2 K, 3 A

## TM1640
designator U?
LED 驱动 8段*16位
footprint SOIC-28
pins: 1 GRID12, 2 GRID13, 3 GRID14, 4 GRID15, 5 GRID16, 6 VSS, 7 DIN, 8 SCLK, 9 SEG1, 10 SEG2, 11 SEG3, 12 SEG4, 13 SEG5, 14 SEG6, 15 SEG7, 16 SEG8, 17 VDD, 18 GRID1, 19 GRID2, 20 GRID3, 21 GRID4, 22 GRID5, 23 GRID6, 24 GRID7, 25 GRID8, 26 GRID9, 27 GRID10, 28 GRID11

## TM1650
designator U1
LED 驱动 8段*4位
footprint SOP-16
pins: 1 DIG1, 2 CLK, 3 DAT, 4 GND, 5 DIG2, 6 DIG3, 7 DIG4, 8 KI1, 9 KI2, 10 VCC, 11 KI3, 12 KI4, 13 KI5, 14 KI6, 15 KI7, 16 KP

## TM7705
designator U?
16 位 A/D 转换芯片 三线串行通讯
pins: 1 SCLK, 2 XI, 3 XO, 4 CSN, 5 ~{RESET}, 6 AIN2P, 7 AIN1P, 8 AIN1N, 9 REF INP, 10 REF INN, 11 AIN2N, 12 OKL, 13 DOUT, 14 DIN, 15 VDD, 16 GND

## Toggle Switche
designator SW?, comment UT-5A-C
明瀚科技 拨动开关 UT-5A-C
footprint Toggle Switches
pins: 1, 2, 3, 4, 5, 6

## TP
designator VCC?  (value not drawn)
Test Probe
footprint TP
pins: 1 JP

## TP4055
designator U?
南京拓微 500mA
pins: 1 ~{CHRG}, 2 GND, 3 BAT, 4 VCC, 5 PROG

## TP5000
designator U?
2A开关降压 4.2V锂电池充电芯片
footprint TQFN-16
pins: 1 VIN, 2 VIN, 3 LX, 4 LX, 5 LX, 6 GND, 7 GND, 8 VS, 9 BAT, 10 VREG, 11 TS, 12 RTRICK, 13 CS, 14 ~{STDBY}, 15 ~{CHRG}, 16 VIN, 17 GND

## TP5100
designator U?
2A开关降压 8.4V/4.2V锂电池充电芯片
pins: 1 VIN, 2 LX, 3 LX, 4 VIN, 5 VIN, 6 PWR_ON-, 7 GND, 8 VS, 9 BAT, 10 VREG, 11 TS, 12 RTRICK, 13 CS, 14 ~{STDBY}, 15 ~{CHRG}, 16 VIN, 17 GND

## TPD3F303DPVR
designator TVS?
pins: 1 D1_O, 2 C_O, 3 D2_O, 4 NC, 5 VCC, 6 D2_I, 7 C_I, 8 D1_I, 9 GND

## Trans3 Ideal
designator T2
Three-winding Transformer (Ideal); Published: 25-Jan-2001; LatestRevisionDate: 17-Jul-2002; LatestRevisionNote: Re-released for DXP Platform.; PackageReference: TRF_6; Publisher: Altium Limited
footprint TRF4+4
pins: 1 Sec1+, 2 Sec2-, 3 Sec2+, 4 Sec1-, 5 Pri+, 8 Pri-

## TS
designator SCL?  (value not drawn)
Test Probe
footprint TP
pins: 1 JP

## TYPE-C-31-M-14
designator P?
footprint TYPE-C-31-M-14
pins: A1B12 GND, A4B9 VBUS, A5 CC1, A6 DP1, A7 DN1, A8 SBU1, B1A12 GND, B4A9 VBUS, B5 CC2, B6 DP2, B7 DN2, B8 SBU2, S CHASIS

## W25X16
designator U?
Serial FLASH Memory, SPI  3V
footprint SOP8
pins: 1 ~{CS}, 2 DO, 3 ~{WP}, 4 GND, 5 DIO, 6 CLK, 7 ~{HOLD}, 8 VCC

## WARNING
designator WARNING?, comment TESTPOINT  (value not drawn)  (no BOM)
Test Point, Miniature, SMT; PartNumber: 5019; Manufacturer: Keystone; CompType: Test Point Loop; U/M: EA; SymbolVersion: 2010-10-20; PackageReference: Test Point, Miniature, SMT; RoHS: Y; MountType: SMT; ComponentLink1Description: Datasheet Link; ComponentLink1URL: http://www.keyelco.com/product-pdf.cfm?p=1357; Publisher: Texas Instruments; LatestRevisionDate: 2014-11-14; Supplier 1: Digi-Key; Supplier Part Number 1: 5019KCT-ND; Supplier 2: Mouser; Supplier Part Number 2: 534-5019
footprint Keystone_5019
footprint Keystone_5019 (Test Point, Miniature, SMT)
footprint BMP-NOTE
footprint bmp-Warning
pins: 1

## XL1509
designator U?
2A,  DCDC
footprint SOIC8
pins: 1 VIN, 2 SW, 3 FB, 4 EN, 5 GND, 6 GND, 7 GND, 8 GND

## XL2001E1
designator U?
芯龙 5V/1.8A输出
footprint SOIC8
pins: 1 FB, 2 NC, 3 VC, 4 VIN, 5 SW, 6 SW, 7 GND, 8 GND

## XL4005E1
designator U?
芯龙
pins: 1 GND, 2 FB, 3 SW, 4 EN, 5 VIN, 6 SW

## XL7005A
designator U?, comment XL4001
芯龙 4.5V~40V 2A
pins: 1 SW, 2 SW, 3 GND, 4 FB, 5 CS, 6 EN, 7 VIN, 8 VIN, 9 GND

## XTAL
designator Y?, comment 32.768KHz
Crystal Oscillator; Published: 8-Jun-2000; LatestRevisionDate: 17-Jul-2002; LatestRevisionNote: Re-released for DXP Platform.; PackageReference: R38; Publisher: Altium Limited
footprint R38 (Crystal, Thru-Hole; 2 Leads; Body 3.1 x 8.2 mm (Dia.xH))
simulation model XTAL (Spice Subcircuit)
footprint FC-13
footprint FC-135
footprint X135
footprint X135
pins: 1 OSC1, 2 OSC2